# EAGLE library part MAX17633BATP+ (library 2024-02-16_22-17-49_Library)
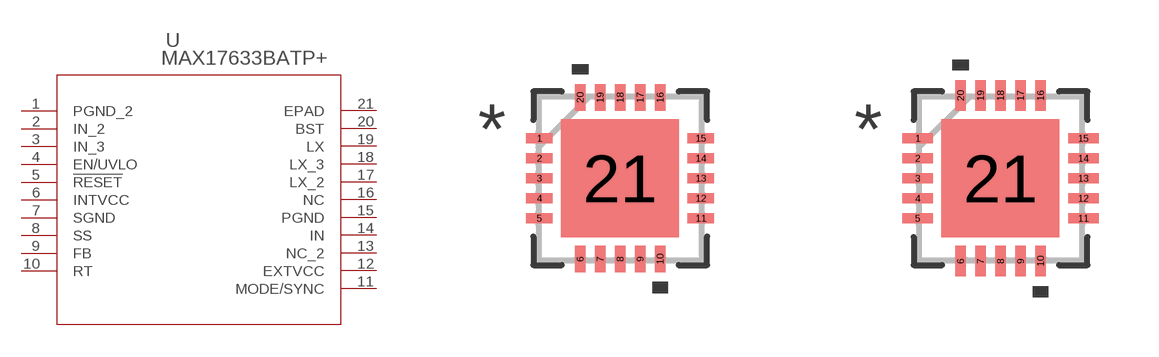
[diagram p0: symbol with the pads of 21-100172_T2044+4C_MXM; footprints 21-100172_T2044+4C_MXM, 21-100172_T2044+4C_MXM-M]

Designator prefix U

## MAX17633BATP+21-100172_T2044+4C_MXM (Copyright: Copyright (C) 2024 Ultra Librarian. All rights reserved.; Manufacturer_Part_Number: MAX17633BATP+; Mfr_Name: Analog Devices Inc)  [21-100172_T2044+4C_MXM]
1  PGND_2  pas
2  IN_2  pas
3  IN_3  pas
4  EN/UVLO  pas
5  !RESET  pas
6  INTVCC  pas
7  SGND  pas
8  SS  pas
9  FB  pas
10  RT  pas
11  MODE/SYNC  pas
12  EXTVCC  pas
13  NC_2  nc
14  IN  pas
15  PGND  pas
16  NC  nc
17  LX_2  pas
18  LX_3  pas
19  LX  pas
20  BST  pas
21  EPAD  pas

## MAX17633BATP+21-100172_T2044+4C_MXM-M (Copyright: Copyright (C) 2024 Ultra Librarian. All rights reserved.; Manufacturer_Part_Number: MAX17633BATP+; Mfr_Name: Analog Devices Inc)  [21-100172_T2044+4C_MXM-M]
Pads as for 21-100172_T2044+4C_MXM

## MAX17633BATP+21-100172_T2044+4C_MXM-L (Copyright: Copyright (C) 2024 Ultra Librarian. All rights reserved.; Manufacturer_Part_Number: MAX17633BATP+; Mfr_Name: Analog Devices Inc)  [21-100172_T2044+4C_MXM-L]
Pads as for 21-100172_T2044+4C_MXM

## Footprint 21-100172_T2044+4C_MXM (pad centres in mm)
smd 0.66 x 0.254: 1 -2.019,1; 2 -2.019,0.5; 3 -2.019,0; 4 -2.019,-0.5; 5 -2.019,-1; 11 2.019,-1; 12 2.019,-0.5; 13 2.019,0; 14 2.019,0.5; 15 2.019,1
smd 0.254 x 0.66: 6 -1,-2.019; 7 -0.5,-2.019; 8 0,-2.019; 9 0.5,-2.019; 10 1,-2.019; 16 1,2.019; 17 0.5,2.019; 18 0,2.019; 19 -0.5,2.019; 20 -1,2.019
smd 2.95 x 2.95: 21 0,0

## Footprint 21-100172_T2044+4C_MXM-M (pad centres in mm)
smd 0.762 x 0.254: 1 -2.07,1; 2 -2.07,0.5; 3 -2.07,0; 4 -2.07,-0.5; 5 -2.07,-1; 11 2.07,-1; 12 2.07,-0.5; 13 2.07,0; 14 2.07,0.5; 15 2.07,1
smd 0.254 x 0.762: 6 -1,-2.07; 7 -0.5,-2.07; 8 0,-2.07; 9 0.5,-2.07; 10 1,-2.07; 16 1,2.07; 17 0.5,2.07; 18 0,2.07; 19 -0.5,2.07; 20 -1,2.07
smd 2.95 x 2.95: 21 0,0

## Footprint 21-100172_T2044+4C_MXM-L (pad centres in mm)
smd 0.559 x 0.254: 1 -1.968,1; 2 -1.968,0.5; 3 -1.968,0; 4 -1.968,-0.5; 5 -1.968,-1; 11 1.968,-1; 12 1.968,-0.5; 13 1.968,0; 14 1.968,0.5; 15 1.968,1
smd 0.254 x 0.559: 6 -1,-1.968; 7 -0.5,-1.968; 8 0,-1.968; 9 0.5,-1.968; 10 1,-1.968; 16 1,1.968; 17 0.5,1.968; 18 0,1.968; 19 -0.5,1.968; 20 -1,1.968
smd 2.95 x 2.95: 21 0,0